# Altium schematic symbol library IO.SchLib: 7 symbols
Pins are listed as number, name and electrical type; pins without a type are passive.

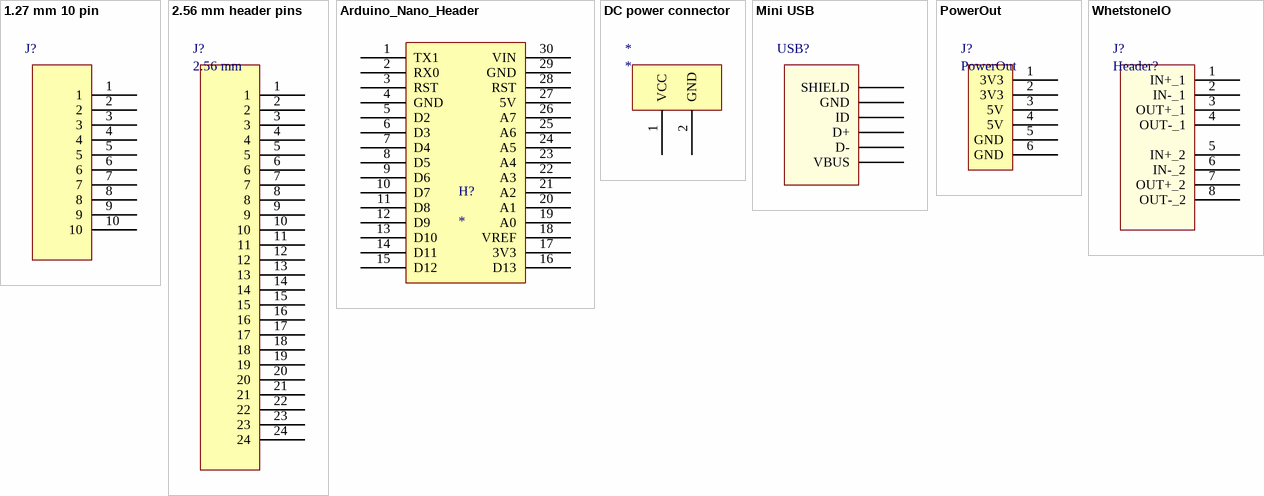
[diagram p0: symbols 1.27 mm 10 pin to WhetstoneIO]

## 1.27 mm 10 pin
designator J?  (value not drawn)
Header pins for I/O
footprint 1.27 mm 10 pin
pins: 1, 2, 3, 4, 5, 6, 7, 8, 9, 10

## 2.56 mm header pins
designator J?, comment 2.56 mm
pins: 1, 2, 3, 4, 5, 6, 7, 8, 9, 10, 11, 12, 13, 14, 15, 16, 17, 18, 19, 20, 21, 22, 23, 24

## Arduino_Nano_Header
designator H?
footprint Arduino_Nano_Header
pins: 1 TX1, 2 RX0, 3 RST, 4 GND, 5 D2, 6 D3, 7 D4, 8 D5, 9 D6, 10 D7, 11 D8, 12 D9, 13 D10, 14 D11, 15 D12, 16 D13, 17 3V3, 18 VREF, 19 A0, 20 A1, 21 A2, 22 A3, 23 A4, 24 A5, 25 A6, 26 A7, 27 5V, 28 RST, 29 GND, 30 VIN

## DC power connector
designator *
pins: 1 VCC, 2 GND

## Mini USB
designator USB?  (value not drawn)
footprint Mini USB PCB
pins: D+, D-, GND, ID, SHIELD, VBUS

## PowerOut
designator J?
footprint 2.54 mm 2 x 3 pins
pins: 1 3V3, 2 3V3, 3 5V, 4 5V, 5 GND, 6 GND

## WhetstoneIO
designator J?, comment Header?
Wheatstone bridge I/O
footprint HeaderWeatstonebridge
pins: 1 IN+_1 (power), 2 IN-_1, 3 OUT+_1, 4 OUT-_1, 5 IN+_2 (power), 6 IN-_2, 7 OUT+_2, 8 OUT-_2